# EAGLE library part DF3-13S (library con-hirose)
Single row female connector 2mm 13 way
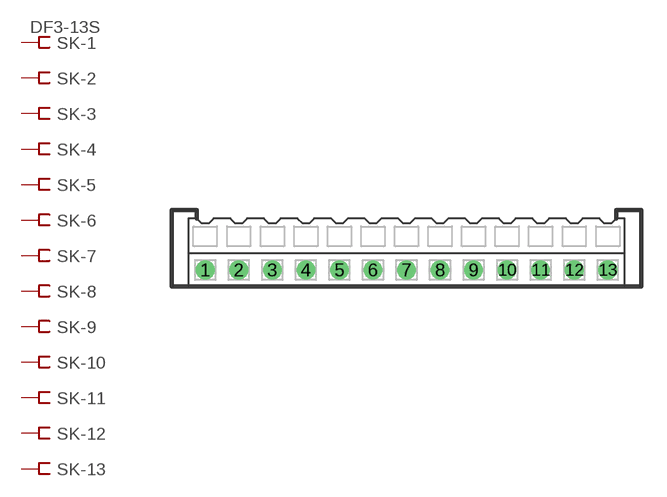
[diagram p14: symbol with the pads of DF3S-13; footprint DF3S-13]

Designator prefix SK; gates -1=FV -2=F -3=F -4=F -5=F -6=F -7=F -8=F -9=F -10=F -11=F -12=F -13=F

## DF3-13S  [DF3S-13]
1  -1:S  pas
2  -2:S  pas
3  -3:S  pas
4  -4:S  pas
5  -5:S  pas
6  -6:S  pas
7  -7:S  pas
8  -8:S  pas
9  -9:S  pas
10  -10:S  pas
11  -11:S  pas
12  -12:S  pas
13  -13:S  pas

## Footprint DF3S-13 (pad centres in mm)
Single row connector 2mm 13 way
drill 0.6 round: 1 -12,-1; 2 -10,-1; 3 -8,-1; 4 -6,-1; 5 -4,-1; 6 -2,-1; 7 0,-1; 8 2,-1; 9 4,-1; 10 6,-1; 11 8,-1; 12 10,-1; 13 12,-1